# EAGLE library part SFW14R-2STE1LF (library FCI-tkr)
FFC/FPC CONNECTOR, RECEPTACLE 14POS 1ROW
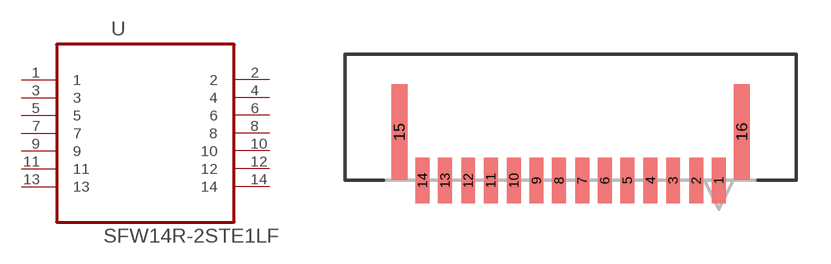
[diagram p64: symbol with the pads of FCI_SFW14R-2STE1LF; footprint FCI_SFW14R-2STE1LF]

Designator prefix U

## SFW14R-2STE1LF (MPN: SFW14R-2STE1LF; OC_FARNELL: 1835593; OC_NEWARK: 62K5602; PACKAGE: CONNECTOR 14POS; SUPPLIER: FCI)  [FCI_SFW14R-2STE1LF]
1  1  pas
2  2  pas
3  3  pas
4  4  pas
5  5  pas
6  6  pas
7  7  pas
8  8  pas
9  9  pas
10  10  pas
11  11  pas
12  12  pas
13  13  pas
14  14  pas

## Footprint FCI_SFW14R-2STE1LF (pad centres in mm)
smd 0.61 x 2.007: 1 6.502,2.743; 2 5.512,2.743; 3 4.496,2.743; 4 3.505,2.743; 5 2.489,2.743; 6 1.499,2.743; 7 0.508,2.743; 8 -0.508,2.743; 9 -1.499,2.743; 10 -2.489,2.743; 11 -3.505,2.743; 12 -4.496,2.743; 13 -5.512,2.743; 14 -6.502,2.743
smd 0.711 x 4.191: 15 -7.518,4.877; 16 7.518,4.877